# Altium schematic symbol library Schlib.SchLib: 47 symbols
Pins are listed as number, name and electrical type; pins without a type are passive.

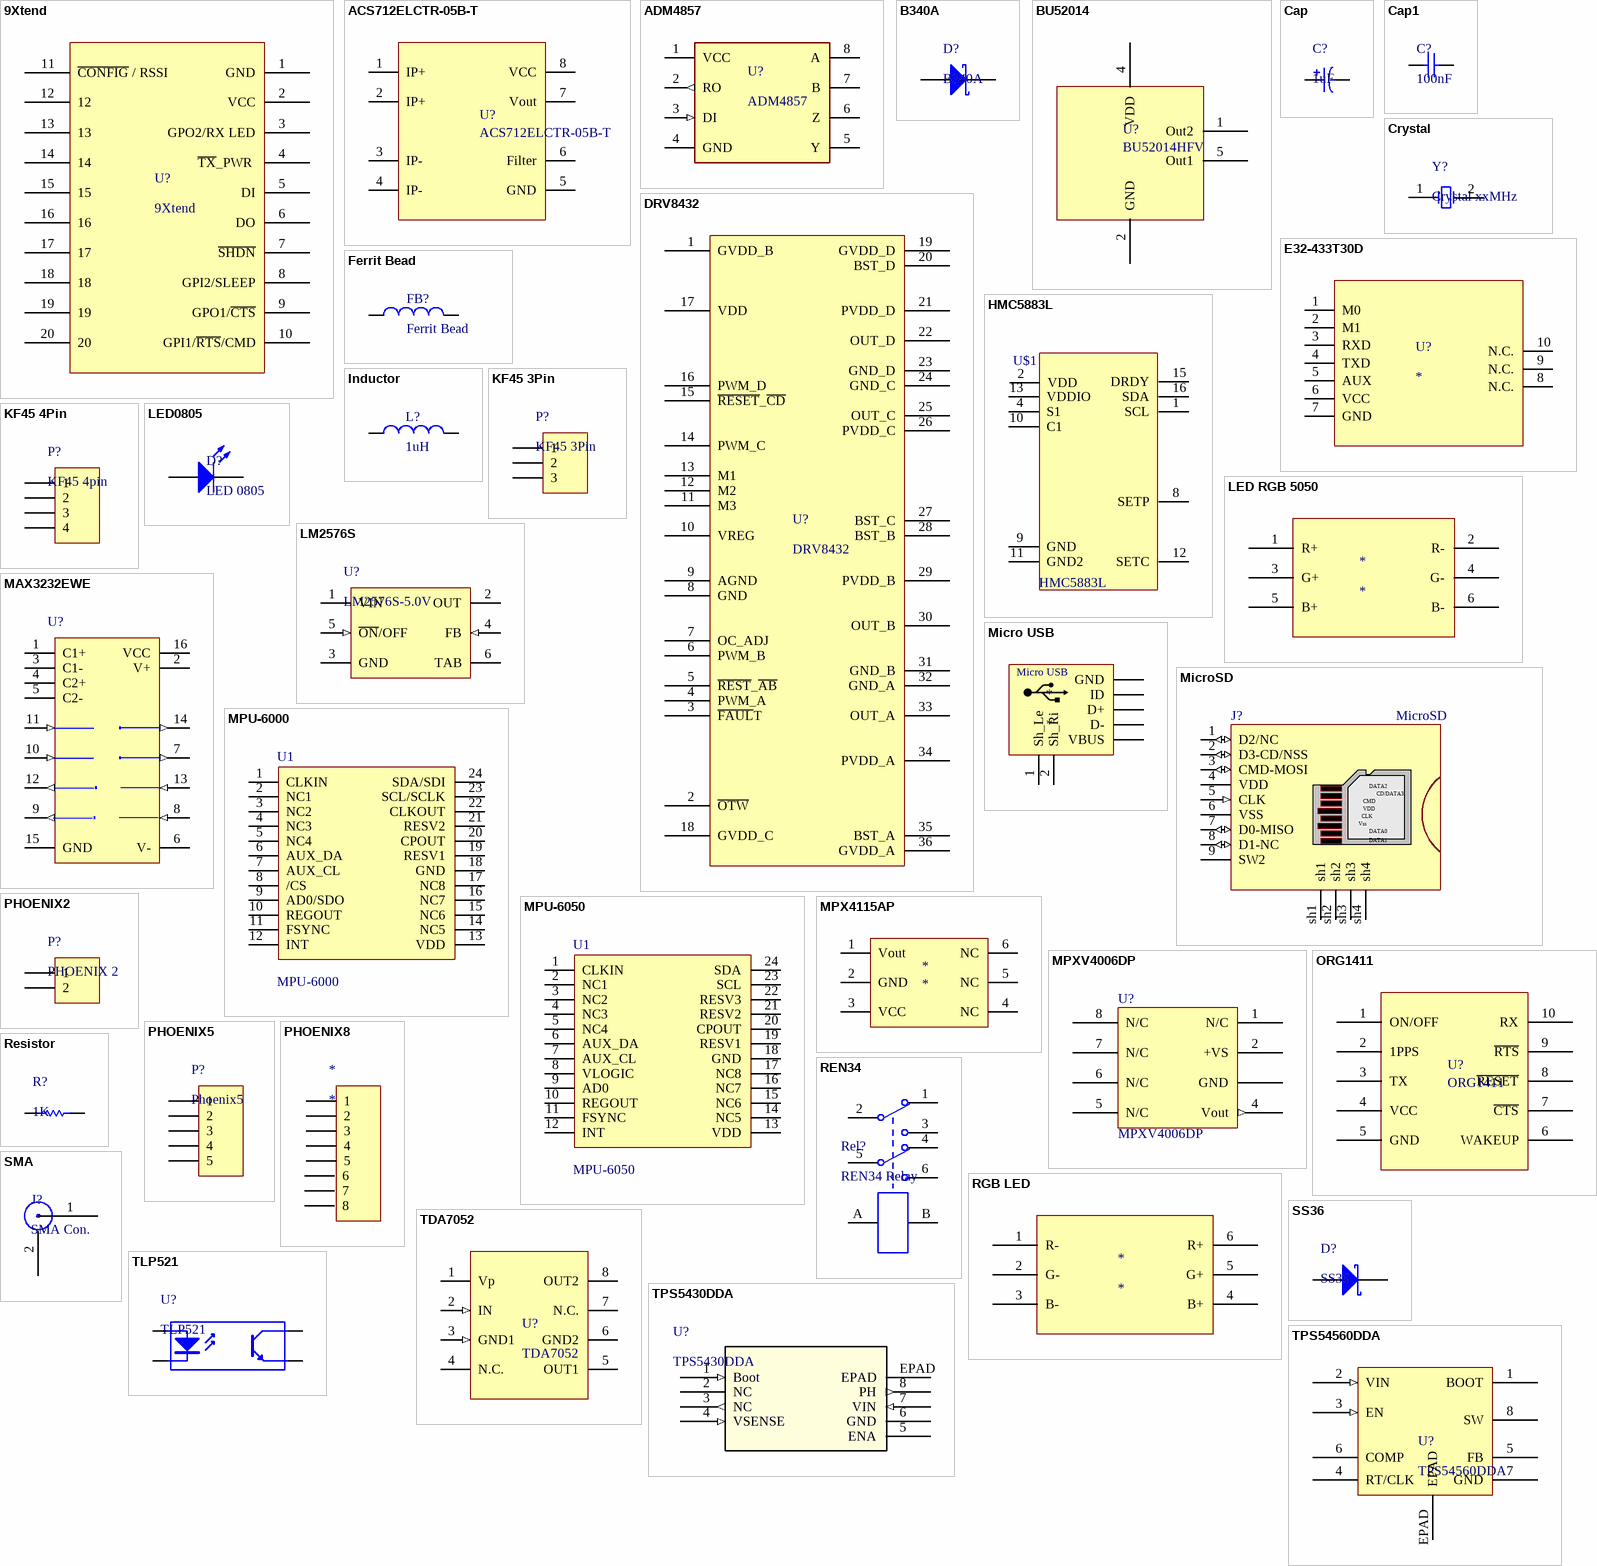
[diagram p0: symbols 9Xtend to TPS54560DDA]

## 9Xtend
designator U?
footprint 9Xtend (Maxstream 9Xtend)
pins: 1 GND, 2 VCC, 3 GPO2/RX LED, 4 ~{TX}_PWR , 5 DI, 6 DO, 7 ~{SHDN}, 8 GPI2/SLEEP, 9 GPO1/~{CTS}, 10 GPI1/~{RTS}/CMD, 11 ~{CONFIG} / RSSI, 12, 13, 14, 15, 16, 17, 18, 19, 20

## ACS712ELCTR-05B-T
designator U?
SENSOR CURRENT 5A 5V
footprint SOIC-8
pins: 1 IP+, 2 IP+, 3 IP-, 4 IP-, 5 GND, 6 Filter, 7 Vout, 8 VCC

## ADM4857
designator U?
5 V, Slew Rate Limited, Half-Duplex and / Full Duplex RS-485/RS-422 Transceivers
footprint SOIC8_A (8-Lead SOIC)
pins: 1 VCC (power), 2 RO (out), 3 DI (in), 4 GND (power), 5 Y (hiz), 6 Z (hiz), 7 B (hiz), 8 A (hiz)

## B340A
designator D?
footprint SMA (SMA (DO-214AC))
pins: 1 A, 2 K

## BU52014
designator U?, comment BU52014HFV
footprint HVSOF5
pins: 1 Out2, 2 GND, 4 VDD, 5 Out1

## Cap
designator C?, comment 1uF
footprint CASE A (SMD Tantalium Capacitor)
footprint CASE D
footprint MAL202138101E3_1 (Aluminum Electrolytic Capacitors - Axial Leaded)
pins: 1, 2

## Cap1
designator C?, comment 100nF
Ceramic Capacitor
footprint 0805C
footprint 0603C
footprint 0402C
footprint 1206C
pins: 1, 2

## Crystal
designator Y?, comment Crystal xxMHz
footprint Crystal
footprint NX3225GB_1 (Crystals CRYSTAL 16MHz 8PF SMD)
pins: 1 X1, 2 X2

## DRV8432
designator U?
DRV8432 Dual Full-Bridge PWM Motor Driver
footprint HSSOP36 (PowerPAD SSOP - 3.6 mm max height)
pins: 1 GVDD_B, 2 ~{OTW}, 3 ~{FAUL}T, 4 PWM_A, 5 ~{REST}_~{AB}, 6 PWM_B, 7 OC_ADJ, 8 GND, 9 AGND, 10 VREG, 11 M3, 12 M2, 13 M1, 14 PWM_C, 15 ~{RESET}_~{CD}, 16 PWM_D, 17 VDD, 18 GVDD_C, 19 GVDD_D, 20 BST_D, 21 PVDD_D, 22 OUT_D, 23 GND_D, 24 GND_C, 25 OUT_C, 26 PVDD_C, 27 BST_C, 28 BST_B, 29 PVDD_B, 30 OUT_B, 31 GND_B, 32 GND_A, 33 OUT_A, 34 PVDD_A, 35 BST_A, 36 GVDD_A

## E32-433T30D
designator U?
footprint E32
pins: 1 M0, 2 M1, 3 RXD, 4 TXD, 5 AUX, 6 VCC, 7 GND, 8 N.C., 9 N.C., 10 N.C.

## Ferrit Bead
designator FB?
footprint 0402F
footprint 0603F
footprint 0805F
footprint 1206F
pins: 1, 2

## HMC5883L
designator U$1
footprint LPCC16
pins: 1 SCL, 2 VDD, 4 S1, 8 SETP, 9 GND, 10 C1, 11 GND2, 12 SETC, 13 VDDIO, 15 DRDY, 16 SDA

## Inductor
designator L?, comment 1uH
footprint Inductor_7*7
footprint Inductor_12*12 (Inductor 12*12*7)
pins: 1, 2

## KF45 3Pin
designator P?
KF45 Barrier Terminal Block 9.5mm Pitch
footprint KF45-3P
pins: 1, 2, 3

## KF45 4Pin
designator P?, comment KF45 4pin
KF45 Barrier Terminal Block 9.5mm Pitch
footprint KF45-4p
pins: 1, 2, 3, 4

## LED0805
designator D?, comment LED 0805
footprint LED0805
pins: 1 K, 2 A

## LED RGB 5050
designator *
footprint LED5050 (LED RGB size 5050)
pins: 1 R+, 2 R-, 3 G+, 4 G-, 5 B+, 6 B-

## LM2576S
designator U?, comment LM2576S-5.0V
3.0A Step-Down Switching Requlator
footprint D2PAK-5
pins: 1 VIN (power), 2 OUT (power), 3 GND (power), 4 FB (in), 5 ~{ON}/OFF (in), 6 TAB (power)

## MAX3232EWE
designator U?
MAX3232 3-V to 5.5-V Multichannel RS-232 Line Driver/Receiver
footprint SOIC16_W
footprint SOIC16
pins: 1 C1+, 2 V+ (power), 3 C1-, 4 C2+, 5 C2-, 6 V- (power), 7 T2OUT (out), 8 R2IN (in), 9 R2OUT (out), 10 T2IN (in), 11 T1IN (in), 12 R1OUT (out), 13 R1IN (in), 14 T1OUT (out), 15 GND (power), 16 VCC (power)

## Micro USB
designator *
footprint Micro USB (Micro USB B type plug)
pins: 1 Sh_Le, 1-VBUS VBUS (power), 2 Sh_Ri, 2-D- D- (power), 3-D+ D+, 4-ID ID, 5-GND GND (power)

## MicroSD
designator J?
MicroSD_altium designer (M.Hariri); Created by:: altium designer (M.Hariri); VALUE: MicroSD
footprint MicroSD_1 (altium designer (M.Hariri))
pins: 1 D2/NC (io) "Data Bit 2", 2 D3-CD/NSS (io) "Card Detect/Data Bit 3", 3 CMD-MOSI (io) "Command Line", 4 VDD (power) "Supply Voltage 2.7V/3.3V", 5 CLK (in) "Clock", 6 VSS (power) "Ground", 7 D0-MISO (io) "Data Bit 0", 8 D1-NC (io) "Data Bit 1", 9 SW2 "Data Bit 1", sh1 "Data Bit 1", sh2, sh3, sh4
text: DATA2; CD/DATA3; CMD; Vss; DATA0; DATA1

## MPU-6000
designator U1
footprint QFN-24
pins: 1 CLKIN, 2 NC1, 3 NC2, 4 NC3, 5 NC4, 6 AUX_DA, 7 AUX_CL, 8 /CS, 9 AD0/SDO, 10 REGOUT, 11 FSYNC, 12 INT, 13 VDD, 14 NC5, 15 NC6, 16 NC7, 17 NC8, 18 GND, 19 RESV1, 20 CPOUT, 21 RESV2, 22 CLKOUT, 23 SCL/SCLK, 24 SDA/SDI

## MPU-6050
designator U1
footprint QFN-24
pins: 1 CLKIN, 2 NC1, 3 NC2, 4 NC3, 5 NC4, 6 AUX_DA, 7 AUX_CL, 8 VLOGIC, 9 AD0, 10 REGOUT, 11 FSYNC, 12 INT, 13 VDD, 14 NC5, 15 NC6, 16 NC7, 17 NC8, 18 GND, 19 RESV1, 20 CPOUT, 21 RESV2, 22 RESV3, 23 SCL, 24 SDA

## MPX4115AP
designator *
footprint 867B–04
pins: 1 Vout, 2 GND, 3 VCC, 4 NC, 5 NC, 6 NC

## MPXV4006DP
designator U?
footprint 1351
pins: 1 N/C, 2 +VS, 3 GND, 4 Vout (out), 5 N/C, 6 N/C, 7 N/C, 8 N/C

## ORG1411
designator U?
footprint ORG1411
pins: 1 ON/OFF, 2 1PPS, 3 TX, 4 VCC, 5 GND, 6 WAKEUP, 7 ~{CTS}, 8 ~{RESET}, 9 ~{RTS}, 10 RX

## PHOENIX2
designator P?, comment PHOENIX 2
footprint PHOENIX2
pins: 1, 2

## PHOENIX5
designator P?, comment Phoenix5
footprint PHOENIX5
pins: 1, 2, 3, 4, 5

## PHOENIX8
designator *
footprint PHOENIX8
pins: 1, 2, 3, 4, 5, 6, 7, 8

## REN34
designator Rel?, comment REN34 Relay
footprint REN34 (Relay)
pins: 1, 2, 3, 4, 5, 6, A, B

## Resistor
designator R?, comment 1K
SMD Resistor
footprint 0805R (Resistor SMD)
footprint 0603R
footprint 0402R
footprint 1206R
pins: 1, 2

## RGB LED
designator *
footprint RGB_LED (3W RGB LED)
pins: 1 R-, 2 G-, 3 B-, 4 B+, 5 G+, 6 R+

## SMA
designator J?, comment SMA Con.
SMA Connector Jack, Female Socket 50Ohm Board Edge, End Launch; Panel Mount Solder
footprint SMA_EDGE
pins: 1 Core, 2 Shield

## SS36
designator D?
Schottky Barrier Rectifier 3.0A 60.0V
footprint SMA (SMA (DO-214AC))
pins: 1 A, 2 K

## TDA7052
designator U?
1 W BTL mono audio amplifier
footprint DIP-8 (DIP, 8-Pin, Row Spacing 7.62 mm, Pitch 2.54 mm)
pins: 1 Vp (power), 2 IN (in), 3 GND1 (in), 4 N.C., 5 OUT1, 6 GND2, 7 N.C., 8 OUT2

## TLP521
designator U?
footprint SOIC-4
pins: 1 A "Anode", 2 K "Cathode", 3 E "Emitter", 4 C "Collector"

## TPS5430DDA
designator U?
footprint HSOP-8 (DDA Package  8-Pin SOIC with Thermal Pad)
pins: 1 Boot (in), 2 NC, 3 NC (out), 4 VSENSE (in), 5 ENA (power), 6 GND, 7 VIN (in), 8 PH (out), EPAD

## TPS54560DDA
designator U?
footprint HSOP-8 (DDA Package  8-Pin SOIC with Thermal Pad)
pins: 1 BOOT, 2 VIN (in), 3 EN (in), 4 RT/CLK, 5 FB, 6 COMP, 7 GND, 8 SW, EPAD

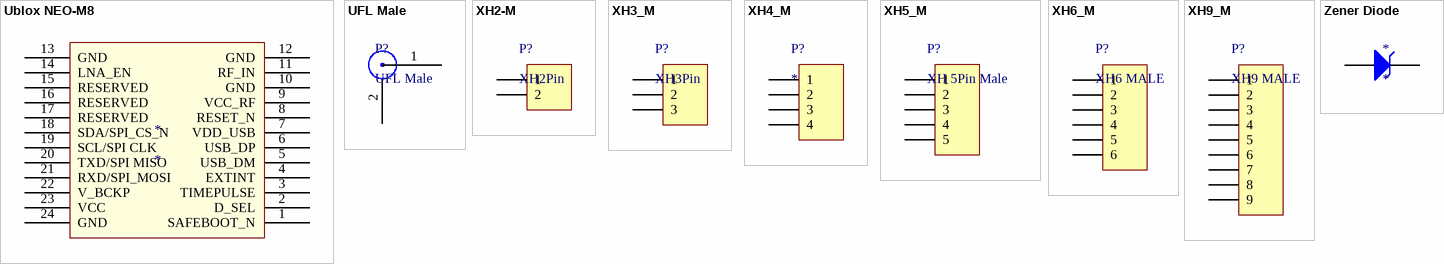
[diagram p1: symbols Ublox NEO-M8 to Zener Diode]

## Ublox NEO-M8
designator *
footprint NEO-LCC (Ublox NEO-M8 LCC)
pins: 1 SAFEBOOT_N, 2 D_SEL, 3 TIMEPULSE, 4 EXTINT, 5 USB_DM, 6 USB_DP, 7 VDD_USB, 8 RESET_N, 9 VCC_RF, 10 GND, 11 RF_IN, 12 GND, 13 GND, 14 LNA_EN, 15 RESERVED, 16 RESERVED, 17 RESERVED, 18 SDA/SPI_CS_N, 19 SCL/SPI CLK, 20 TXD/SPI MISO, 21 RXD/SPI_MOSI, 22 V_BCKP, 23 VCC, 24 GND

## UFL Male
designator P?
footprint UFL0.81
pins: 1 Core, 2 Shield

## XH2-M
designator P?, comment XH2Pin
footprint XH2_M (XH Connector 2Pin Male)
pins: 1, 2

## XH3_M
designator P?, comment XH3Pin
footprint XH3_M (XH Connector 3Pin Male)
pins: 1, 2, 3

## XH4_M
designator P?
footprint XH4_M (XH Connector 4Pin Male)
pins: 1, 2, 3, 4

## XH5_M
designator P?, comment XH 5Pin Male
footprint XH5_M (XH Connector 5Pin Male)
pins: 1, 2, 3, 4, 5

## XH6_M
designator P?, comment XH6 MALE
footprint XH6_M
pins: 1, 2, 3, 4, 5, 6

## XH9_M
designator P?, comment XH9 MALE
footprint XH9_M
pins: 1, 2, 3, 4, 5, 6, 7, 8, 9

## Zener Diode
designator *
footprint MiniMelf (Metal electrode leadless face (MELF))
pins: 1 A, 2 K